# Altium footprint library SparkFun-IC-Special-Function.PCBLIB: 46 footprints (part 3 of 3)
Each footprint in its own frame and in the unit in brackets; x right, y up, seen from the top. Pads: shape width x height; smd on the part's side, far side on the other; paste and mask are expansions set on the pad; w line width, h text height; cw(c..) or ccw(c..) is an arc to the next point about the centre after c.
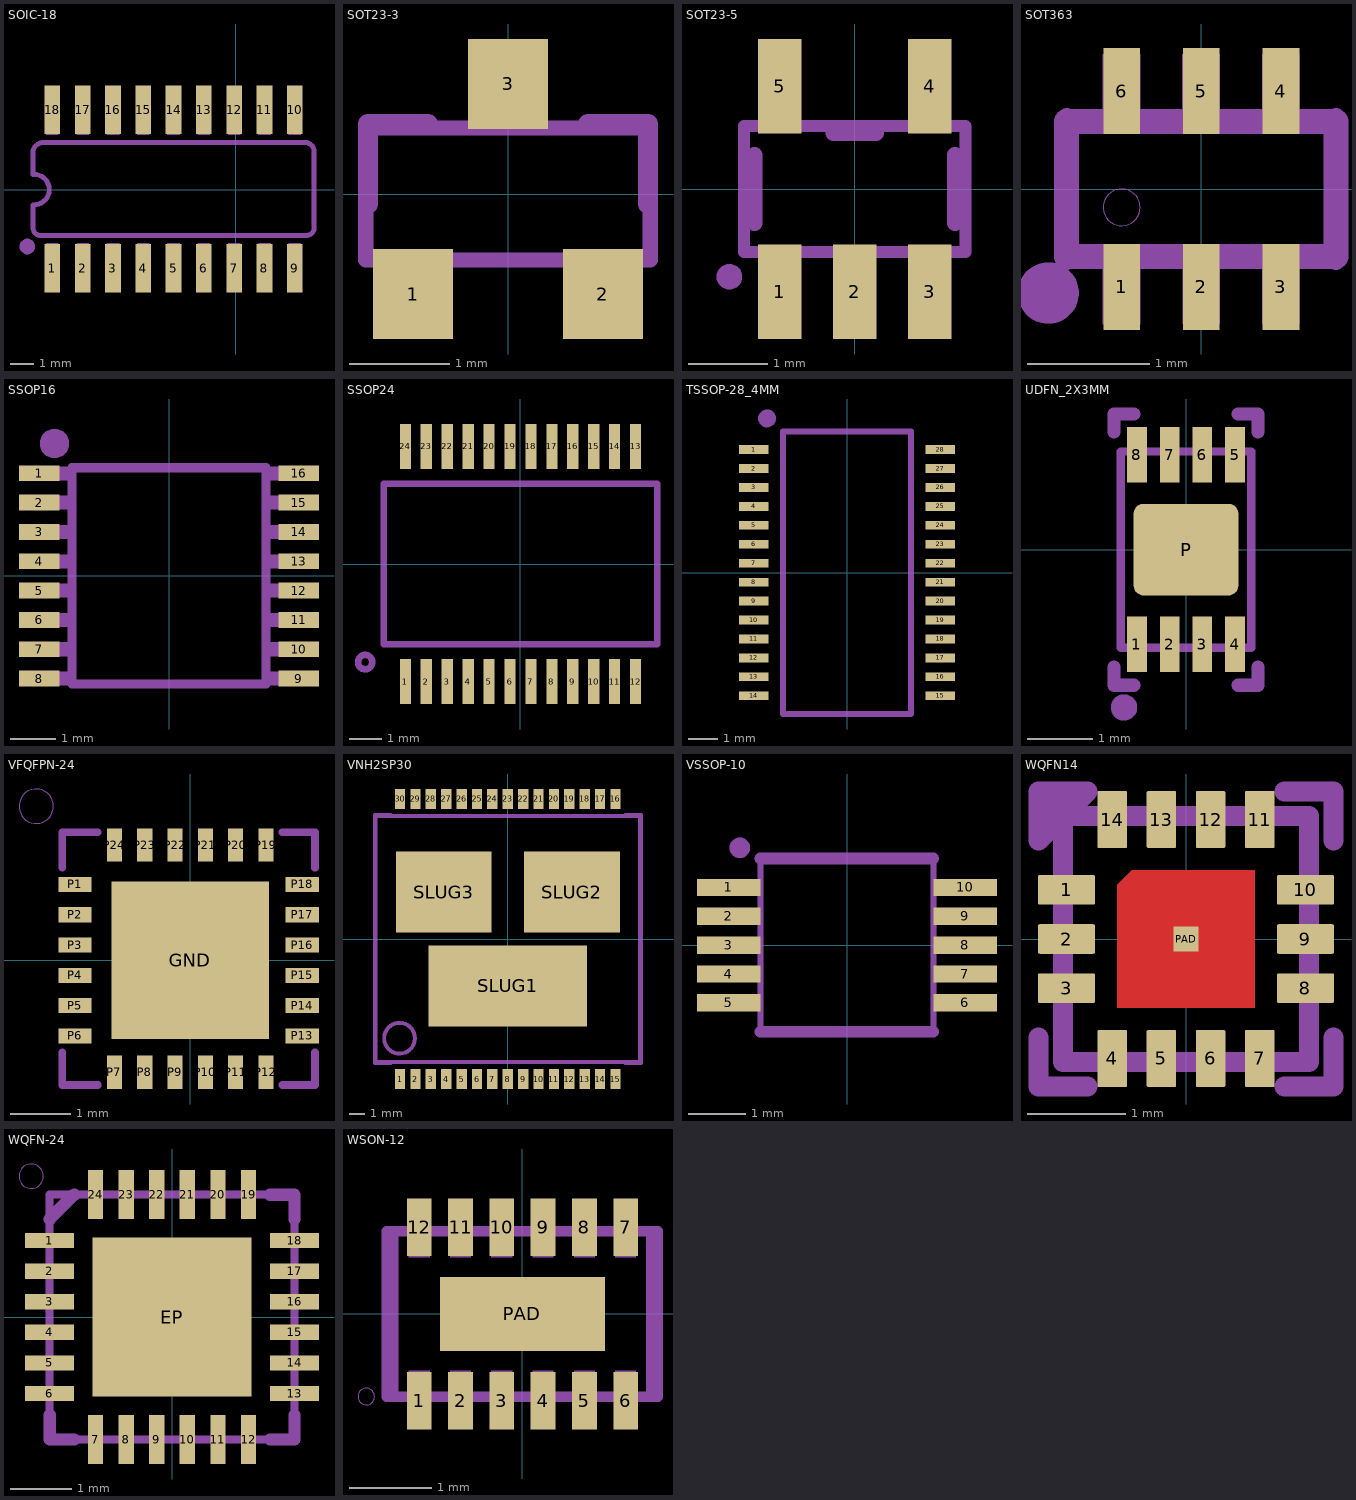
[diagram p2: the footprints below, top view; thin cyan lines are the x and y axes]

## SOIC-18 [mil]
pads (18):
  rect 26x80 smd: 1(-302.56,-129.32) 2(-252.56,-129.32) 3(-202.56,-129.32) 4(-152.56,-129.32) 5(-102.56,-129.32) 6(-52.56,-129.32) 7(-2.56,-129.32) 8(47.44,-129.32) 9(97.44,-129.32) 10(97.44,131.68) 11(47.44,131.68) 12(-2.56,131.68) 13(-52.56,131.68) 14(-102.56,131.68) 15(-152.56,131.68) 16(-202.56,131.68) 17(-252.56,131.68) 18(-302.56,131.68)
tDocu:
  region: -312.56,-148.82 -312.56,-88.32 -292.56,-88.32 -292.56,-148.82
  region: -262.56,-146.32 -262.56,-88.32 -242.56,-88.32 -242.56,-146.32
  region: -212.56,-146.32 -212.56,-88.32 -192.56,-88.32 -192.56,-146.32
  region: -162.56,-146.32 -162.56,-88.32 -142.56,-88.32 -142.56,-146.32
  region: -112.56,-146.32 -112.56,-88.32 -92.56,-88.32 -92.56,-146.32
  region: -62.56,-146.32 -62.56,-88.32 -42.56,-88.32 -42.56,-146.32
  region: -12.56,-146.32 -12.56,-88.32 7.44,-88.32 7.44,-146.32
  region: -312.56,90.68 -312.56,148.68 -292.56,148.68 -292.56,90.68
  region: -262.56,90.68 -262.56,148.68 -242.56,148.68 -242.56,90.68
  region: -212.56,90.68 -212.56,148.68 -192.56,148.68 -192.56,90.68
  region: -162.56,90.68 -162.56,148.68 -142.56,148.68 -142.56,90.68
  region: -112.56,90.68 -112.56,148.68 -92.56,148.68 -92.56,90.68
  region: -62.56,90.68 -62.56,148.68 -42.56,148.68 -42.56,90.68
  region: -12.56,90.68 -12.56,148.68 7.44,148.68 7.44,90.68
  region: 37.44,-148.82 37.44,-88.32 57.44,-88.32 57.44,-148.82
  region: 87.44,-146.32 87.44,-88.32 107.44,-88.32 107.44,-146.32
  region: 37.44,90.68 37.44,148.68 57.44,148.68 57.44,90.68
  region: 87.44,90.68 87.44,148.68 107.44,148.68 107.44,90.68
tPlace:
  region: -331.25,-93.75 -331.25,-91.26 -333.15,-86.67 -336.67,-83.15 -341.26,-81.25 -343.75,-81.25 -346.24,-81.25 -350.83,-83.15 -354.35,-86.67 -356.25,-91.26 -356.25,-93.75 -356.25,-96.24 -354.35,-100.83 -350.83,-104.35 -346.24,-106.25 -343.75,-106.25 -341.26,-106.25 -336.67,-104.35 -333.15,-100.83 -331.25,-96.24 -331.25,-93.75
  lines w8: -334.56,-24.82 -334.56,-64.38 ccw(c-321.54,-62.42) -319.56,-75.44 118.38,-75.44 ccw(c116.41,-62.41) 129.44,-60.44 129.44,62.81 ccw(c114.44,62.81) 114.44,77.81 -319.56,77.81 ccw(c-317.59,60.84) -334.56,58.87 ; -334.56,25.18 -334.56,58.37 ; -332.56,-24.82 ccw(c-332.56,0.18) -332.56,25.18

## SOT23-3 [mil]
pads (3):
  rect 31.5x35.43 smd: 1(-37.4,-39.37) 2(37.4,-39.37) 3(0,43.31)
tDocu:
  lines w6: -56,-26 56,-26 56,26 -56,26 -56,-26
tPlace:
  lines w8: -55.12,-3.94 -55.12,27.56 -31.5,27.56 ; 31.5,27.56 55.12,27.56 55.12,-3.94

## SOT23-5 [mil]
pads (5):
  rect 21.65x47.24 smd: 1(-37.4,-51.19) 2(0,-51.19) 3(37.4,-51.19) 4(37.4,51.19) 5(-37.4,51.19)
tDocu:
  region: -47.24,-59.06 -47.24,-33.46 -27.56,-33.46 -27.56,-59.06
  region: -9.84,-59.06 -9.84,-33.46 9.84,-33.46 9.84,-59.06
  region: 27.56,-59.06 27.56,-33.46 47.24,-33.46 47.24,-59.06
  region: 27.56,33.46 27.56,59.06 47.24,59.06 47.24,33.46
  region: -47.24,33.46 -47.24,59.06 -27.56,59.06 -27.56,33.46
  lines w6: -55.12,-31.5 55.12,-31.5 55.12,31.5 -55.12,31.5 -55.12,-31.5
tPlace:
  region: -68.75,-43.75 -68.75,-42.51 -67.8,-40.21 -66.04,-38.45 -63.74,-37.5 -62.5,-37.5 -61.26,-37.5 -58.96,-38.45 -57.2,-40.21 -56.25,-42.51 -56.25,-43.75 -56.25,-44.99 -57.2,-47.29 -58.96,-49.05 -61.26,-50 -62.5,-50 -63.74,-50 -66.04,-49.05 -67.8,-47.29 -68.75,-44.99 -68.75,-43.75
  lines w8: -50,-16.91 -50,16.91 ; -10.57,27.91 10.57,27.91 ; 50,-16.91 50,16.91

## SOT363 [mil]
pads (6):
  rect 11.81x27.56 smd: 1(-25.59,-31.5) 2(0,-31.5) 3(25.59,-31.5) 4(25.59,31.5) 5(0,31.5) 6(-25.59,31.5)
tDocu:
  circle w0: c-25.59,-5.91 r5.91
  region: -31.74,-43.43 -31.74,-23.62 -19.69,-23.62 -19.69,-43.43
  region: -5.98,-43.37 -5.98,-23.62 5.91,-23.62 5.91,-43.37
  region: 19.66,-43.34 19.66,-23.62 31.5,-23.62 31.5,-43.34
  region: 19.64,23.66 19.64,43.31 31.5,43.31 31.5,23.66
  region: -6.05,23.68 -6.05,43.31 5.91,43.31 5.91,23.68
  region: -31.69,23.68 -31.69,43.31 -19.69,43.31 -19.69,23.68
  lines w8: -43.31,-21.65 43.31,-21.65 43.31,21.65 -43.31,21.65 -43.31,-21.65
tPlace:
  circle w11.81: c-49.21,-33.46 r3.94
  lines w5: -43.31,-23.62 -43.31,23.62 ; 43.31,-23.62 43.31,23.62

## SSOP16 [mm]
pads (16):
  rect 0.9x0.35 smd: 1(-2.875,2.275) 2(-2.875,1.625) 3(-2.875,0.975) 4(-2.875,0.325) 5(-2.875,-0.325) 6(-2.875,-0.975) 7(-2.875,-1.625) 8(-2.875,-2.275) 9(2.875,-2.275) 10(2.875,-1.625) 11(2.875,-0.975) 12(2.875,-0.325) 13(2.875,0.325) 14(2.875,0.975) 15(2.875,1.625) 16(2.875,2.275)
tDocu:
  region: -3.2,2.125 -3.2,2.425 -2.25,2.425 -2.25,2.125
  region: -3.2,1.475 -3.2,1.775 -2.25,1.775 -2.25,1.475
  region: -3.2,0.825 -3.2,1.125 -2.25,1.125 -2.25,0.825
  region: -3.2,0.175 -3.2,0.475 -2.25,0.475 -2.25,0.175
  region: -3.2,-0.475 -3.2,-0.175 -2.25,-0.175 -2.25,-0.475
  region: -3.2,-1.125 -3.2,-0.825 -2.25,-0.825 -2.25,-1.125
  region: -3.2,-1.775 -3.2,-1.475 -2.25,-1.475 -2.25,-1.775
  region: -3.2,-2.425 -3.2,-2.125 -2.25,-2.125 -2.25,-2.425
  region: 3.2,-2.125 3.2,-2.425 2.25,-2.425 2.25,-2.125
  region: 3.2,-1.475 3.2,-1.775 2.25,-1.775 2.25,-1.475
  region: 3.2,-0.825 3.2,-1.125 2.25,-1.125 2.25,-0.825
  region: 3.2,-0.175 3.2,-0.475 2.25,-0.475 2.25,-0.175
  region: 3.2,0.475 3.2,0.175 2.25,0.175 2.25,0.475
  region: 3.2,1.125 3.2,0.825 2.25,0.825 2.25,1.125
  region: 3.2,1.775 3.2,1.475 2.25,1.475 2.25,1.775
  region: 3.2,2.425 3.2,2.125 2.25,2.125 2.25,2.425
tPlace:
  region: -2.54,3.255 -2.477,3.255 -2.36,3.206 -2.271,3.117 -2.222,3 -2.222,2.937 -2.222,2.874 -2.271,2.757 -2.36,2.668 -2.477,2.62 -2.54,2.62 -2.603,2.62 -2.72,2.668 -2.809,2.757 -2.857,2.874 -2.857,2.937 -2.857,3 -2.809,3.117 -2.72,3.206 -2.603,3.255 -2.54,3.255
  lines w0.203: -2.148,-2.399 2.148,-2.399 2.148,2.399 -2.148,2.399 -2.148,-2.399

## SSOP24 [mil]
pads (24):
  rect 13.7x55 smd: 1(-140.75,-143.94) 2(-115.16,-143.94) 3(-89.57,-143.94) 4(-63.98,-143.94) 5(-38.39,-143.94) 6(-12.8,-143.94) 7(12.8,-143.94) 8(38.39,-143.94) 9(63.98,-143.94) 10(89.57,-143.94) 11(115.16,-143.94) 12(140.75,-143.94) 13(140.75,143.94) 14(115.16,143.94) 15(89.57,143.94) 16(63.98,143.94) 17(38.39,143.94) 18(12.8,143.94) 19(-12.8,143.94) 20(-38.39,143.94) 21(-63.98,143.94) 22(-89.57,143.94) 23(-115.16,143.94) 24(-140.75,143.94)
tPlace:
  circle w8: c-190,-120 r8.78
  lines w8: -167.32,-98.43 167.32,-98.43 167.32,98.43 -167.32,98.43 -167.32,-98.43

## TSSOP-28_4MM [mm]
pads (28):
  rect 1x0.3 smd: 1(-3.2,4.225) 2(-3.2,3.575) 3(-3.2,2.925) 4(-3.2,2.275) 5(-3.2,1.625) 6(-3.2,0.975) 7(-3.2,0.325) 8(-3.2,-0.325) 9(-3.2,-0.975) 10(-3.2,-1.625) 11(-3.2,-2.275) 12(-3.2,-2.925) 13(-3.2,-3.575) 14(-3.2,-4.225) 15(3.2,-4.225) 16(3.2,-3.575) 17(3.2,-2.925) 18(3.2,-2.275) 19(3.2,-1.625) 20(3.2,-0.975) 21(3.2,-0.325) 22(3.2,0.325) 23(3.2,0.975) 24(3.2,1.625) 25(3.2,2.275) 26(3.2,2.925) 27(3.2,3.575) 28(3.2,4.225)
tPlace:
  circle w0.305: c-2.743,5.293 r0.152
  lines w0.203: -2.2,-4.85 2.2,-4.85 2.2,4.85 -2.2,4.85 -2.2,-4.85

## UDFN_2X3MM [mil]
pads (9):
  rect 11.81x33.46 smd: 1(-29.53,-57.09) 2(-9.84,-57.09) 3(9.84,-57.09) 4(29.53,-57.09) 5(29.53,57.09) 6(9.84,57.09) 7(-9.84,57.09) 8(-29.53,57.09)
  rrect20% 62.99x55.12 smd paste+0: P(0,0)
Top Paste:
  region: -25,-15 -25,15 25,15 25,-15
tDocu:
  lines w5: -39.37,-59.06 -39.37,59.06 39.37,59.06 39.37,-59.06 -39.37,-59.06
tPlace:
  circle w8: c-37.37,-95.11 r3.94
  lines w8: -43.31,-70.87 -43.31,-81.68 -31.5,-81.68 ; -43.31,70.87 -43.31,81.68 -31.5,81.68 ; 31.5,-81.68 43.31,-81.68 43.31,-70.87 ; 31.5,81.68 43.31,81.68 43.31,70.87
Reference:
  circle w1: c20,0 r5.9
  circle w1: c-20,0 r5.9

## VFQFPN-24 [mil]
pads (25):
  rect 102.36x102.36 smd paste+0: GND(0,0)
  rect 21.65x9.84 smd: P1(-74.8,49.21) P2(-74.8,29.53) P3(-74.8,9.84) P4(-74.8,-9.84) P5(-74.8,-29.53) P6(-74.8,-49.21) P13(72.83,-49.21) P14(72.83,-29.53) P15(72.83,-9.84) P16(72.83,9.84) P17(72.83,29.53) P18(72.83,49.21)
  rect 9.84x21.65 smd: P7(-49.21,-72.83) P8(-29.53,-72.83) P9(-9.84,-72.83) P10(9.84,-72.83) P11(29.53,-72.83) P12(49.21,-72.83) P19(49.21,74.8) P20(29.53,74.8) P21(9.84,74.8) P22(-9.84,74.8) P23(-29.53,74.8) P24(-49.21,74.8)
Top Paste:
  region: -45.28,5.91 -45.28,45.28 -5.91,45.28 -5.91,5.91
  region: 5.91,5.91 5.91,45.28 45.28,45.28 45.28,5.91
  region: 5.91,-45.28 5.91,-5.91 45.28,-5.91 45.28,-45.28
  region: -45.28,-45.28 -45.28,-5.91 -5.91,-5.91 -5.91,-45.28
tPlace:
  circle w0: c-100,100 r11.18
  lines w5: -83,-60 -83,-81 -60,-81 ; -83,60 -83,83 -60,83 ; 60,-81 81,-81 81,-60 ; 60,83 81,83 81,60

## VNH2SP30 [mm]
pads (33):
  rect 0.67x1.3 smd: 1(-7,-9.1) 2(-6,-9.1) 3(-5,-9.1) 4(-4,-9.1) 5(-3,-9.1) 6(-2,-9.1) 7(-1,-9.1) 8(0,-9.1) 9(1,-9.1) 10(2,-9.1) 11(3,-9.1) 12(4,-9.1) 13(5,-9.1) 14(6,-9.1) 15(7,-9.1) 16(7,9.1) 17(6,9.1) 18(5,9.1) 19(4,9.1) 20(3,9.1) 21(2,9.1) 22(1,9.1) 23(0,9.1) 24(-1,9.1) 25(-2,9.1) 26(-3,9.1) 27(-4,9.1) 28(-5,9.1) 29(-6,9.1) 30(-7,9.1)
  rect 10.3x5.25 smd: SLUG1(0,-3.05)
  rect 6.23x5.25 smd: SLUG2(4.165,3.05) SLUG3(-4.165,3.05)
tDocu:
  lines w0.254: -8.6,-8 8.6,-8 8.6,8 -8.6,8 -8.6,-8
tPlace:
  circle w0.254: c-7.035,-6.45 r1
  lines w0.254: -7.635,-8.05 -8.635,-8.05 -8.635,8.05 -7.635,8.05 ; 7.665,-8.05 8.665,-8.05 8.665,8.05 7.665,8.05

## VSSOP-10 [mm]
pads (10):
  rect 1.1x0.3 smd: 1(-2.05,1) 2(-2.05,0.5) 3(-2.05,0) 4(-2.05,-0.5) 5(-2.05,-1) 6(2.05,-1) 7(2.05,-0.5) 8(2.05,0) 9(2.05,0.5) 10(2.05,1)
tDocu:
  region: -2.45,-0.11 -2.45,0.11 -1.5,0.11 -1.5,-0.11
  region: -2.45,0.89 -2.45,1.11 -1.5,1.11 -1.5,0.89
  region: -2.45,-1.11 -2.45,-0.89 -1.5,-0.89 -1.5,-1.11
  region: -2.425,-0.61 -2.425,-0.39 -1.475,-0.39 -1.475,-0.61
  region: -2.45,0.39 -2.45,0.61 -1.5,0.61 -1.5,0.39
  region: 2.425,0.11 2.425,-0.11 1.475,-0.11 1.475,0.11
  region: 2.425,0.61 2.425,0.39 1.475,0.39 1.475,0.61
  region: 2.425,1.11 2.425,0.89 1.475,0.89 1.475,1.11
  region: 2.425,-0.39 2.425,-0.61 1.475,-0.61 1.475,-0.39
  region: 2.425,-0.89 2.425,-1.11 1.475,-1.11 1.475,-0.89
  lines w0.1: -1.5,-1.5 -1.5,1.5 1.5,1.5 1.5,-1.5 -1.5,-1.5
tPlace:
  circle w0.203: c-1.859,1.687 r0.076
  lines w0.203: -1.505,-1.5 1.495,-1.5 ; -1.505,1.5 1.495,1.5

## WQFN14 [mil]
pads (15):
  rrect10% 22.83x11.81 smd mask+0: 1(-47.83,19.69) 2(-47.83,0) 3(-47.83,-19.69) 8(47.83,-19.69) 9(47.83,0) 10(47.83,19.69)
  rrect10% 11.81x22.83 smd mask+0: 4(-29.53,-47.83) 5(-9.84,-47.83) 6(9.84,-47.83) 7(29.53,-47.83) 11(29.53,47.83) 12(9.84,47.83) 13(-9.84,47.83) 14(-29.53,47.83)
  rect 9.84x9.84 smd paste+0 mask+0: PAD(0,0)
Top:
  region: 27.56,27.56 27.56,-27.56 -27.56,-27.56 -27.56,21.65 -21.65,27.56
Top Paste:
  region: -19.69,3.94 -19.69,19.69 -3.94,19.69 -3.94,3.94
  region: 3.94,3.94 3.94,19.69 19.69,19.69 19.69,3.94
  region: -19.69,-19.69 -19.69,-3.94 -3.94,-3.94 -3.94,-19.69
  region: 3.94,-19.69 3.94,-3.94 19.69,-3.94 19.69,-19.69
Top Solder:
  drawing of 15 lines, arcs and shapes, not listed
tDocu:
  lines w8: -49.21,-49.21 49.21,-49.21 49.21,49.21 -49.21,49.21 -49.21,-49.21
tPlace:
  lines w8: -59.06,-39.37 -59.06,-59.06 -39.37,-59.06 ; 39.37,-59.06 59.06,-59.06 59.06,-39.37 ; 39.37,59.06 59.06,59.06 59.06,39.37 ; -59.06,49.21 -59.06,39.37 -39.37,59.06 -49.21,59.06 ; -59.06,49.21 -59.06,59.06 -49.21,59.06 ; -59.06,49.21 -49.21,59.06

## WQFN-24 [mil]
pads (25):
  rect 31.5x9.84 smd: 1(-78.74,49.21) 2(-78.74,29.53) 3(-78.74,9.84) 4(-78.74,-9.84) 5(-78.74,-29.53) 6(-78.74,-49.21) 13(78.74,-49.21) 14(78.74,-29.53) 15(78.74,-9.84) 16(78.74,9.84) 17(78.74,29.53) 18(78.74,49.21)
  rect 9.84x31.5 smd: 7(-49.21,-78.74) 8(-29.53,-78.74) 9(-9.84,-78.74) 10(9.84,-78.74) 11(29.53,-78.74) 12(49.21,-78.74) 19(49.21,78.74) 20(29.53,78.74) 21(9.84,78.74) 22(-9.84,78.74) 23(-29.53,78.74) 24(-49.21,78.74)
  rect 102.36x102.36 smd paste+0: EP(0,0)
Top Paste:
  region: -39.37,7.87 -39.37,39.37 -7.87,39.37 -7.87,7.87
  region: 7.87,7.87 7.87,39.37 39.37,39.37 39.37,7.87
  region: 7.87,-39.37 7.87,-7.87 39.37,-7.87 39.37,-39.37
  region: -39.37,-39.37 -39.37,-7.87 -7.87,-7.87 -7.87,-39.37
tDocu:
  lines w5: -78.74,-78.74 -78.74,78.74 78.74,78.74 78.74,-78.74 -78.74,-78.74
tPlace:
  circle w0: c-90.55,90.55 r7.87
  lines w8: -78.74,-62.99 -78.74,-78.74 -62.99,-78.74 ; -78.74,62.99 -62.99,78.74 ; 62.99,-78.74 78.74,-78.74 78.74,-62.99 ; 62.99,78.74 78.74,78.74 78.74,62.99

## WSON-12 [mm]
pads (13):
  rect 0.3x0.7 smd paste+0: 1(-1.25,-1.05) 2(-0.75,-1.05) 3(-0.25,-1.05) 4(0.25,-1.05) 5(0.75,-1.05) 6(1.25,-1.05) 7(1.25,1.05) 8(0.75,1.05) 9(0.25,1.05) 10(-0.25,1.05) 11(-0.75,1.05) 12(-1.25,1.05)
  rect 2x0.9 smd paste+0: PAD(0,0)
Top Paste:
  circle w0: c0.5,0 r0.4
  circle w0: c-0.5,0 r0.4
  region: 0.125,0.813 0.125,1.375 0.375,1.375 0.375,0.813
  region: -1.375,0.813 -1.375,1.375 -1.125,1.375 -1.125,0.813
  region: -0.875,0.813 -0.875,1.375 -0.625,1.375 -0.625,0.813
  region: -0.375,0.813 -0.375,1.375 -0.125,1.375 -0.125,0.813
  region: 1.125,0.813 1.125,1.375 1.375,1.375 1.375,0.813
  region: 0.625,0.813 0.625,1.375 0.875,1.375 0.875,0.813
  region: -1.375,-1.375 -1.375,-0.813 -1.125,-0.813 -1.125,-1.375
  region: -0.875,-1.375 -0.875,-0.813 -0.625,-0.813 -0.625,-1.375
  region: -0.375,-1.375 -0.375,-0.813 -0.125,-0.813 -0.125,-1.375
  region: 0.125,-1.375 0.125,-0.813 0.375,-0.813 0.375,-1.375
  region: 1.125,-1.375 1.125,-0.813 1.375,-0.813 1.375,-1.375
  region: 0.625,-1.375 0.625,-0.813 0.875,-0.813 0.875,-1.375
tDocu:
  region: -1.375,0.688 -1.375,1 -1.125,1 -1.125,0.688
  region: -0.875,0.688 -0.875,1 -0.625,1 -0.625,0.688
  region: -0.375,0.688 -0.375,1 -0.125,1 -0.125,0.688
  region: 0.125,0.688 0.125,1 0.375,1 0.375,0.688
  region: 0.625,0.688 0.625,1 0.875,1 0.875,0.688
  region: 1.125,0.688 1.125,1 1.375,1 1.375,0.688
  region: -1.125,-0.688 -1.125,-1 -1.375,-1 -1.375,-0.688
  region: -0.625,-0.688 -0.625,-1 -0.875,-1 -0.875,-0.688
  region: -0.125,-0.688 -0.125,-1 -0.375,-1 -0.375,-0.688
  region: 0.375,-0.688 0.375,-1 0.125,-1 0.125,-0.688
  region: 0.875,-0.688 0.875,-1 0.625,-1 0.625,-0.688
  region: 1.375,-0.688 1.375,-1 1.125,-1 1.125,-0.688
  lines w0.127: -1.563,-1 1.563,-1 1.563,1 -1.563,1 -1.563,-1
tPlace:
  circle w0: c-1.892,-1 r0.1
  lines w0.127: -1.579,-1 -1.642,-1 -1.642,1 -1.579,1 ; 1.579,-1 1.642,-1 1.642,1 1.579,1